# EAGLE library part RJ45-SMD (library alexlib_plues)
AMP connector
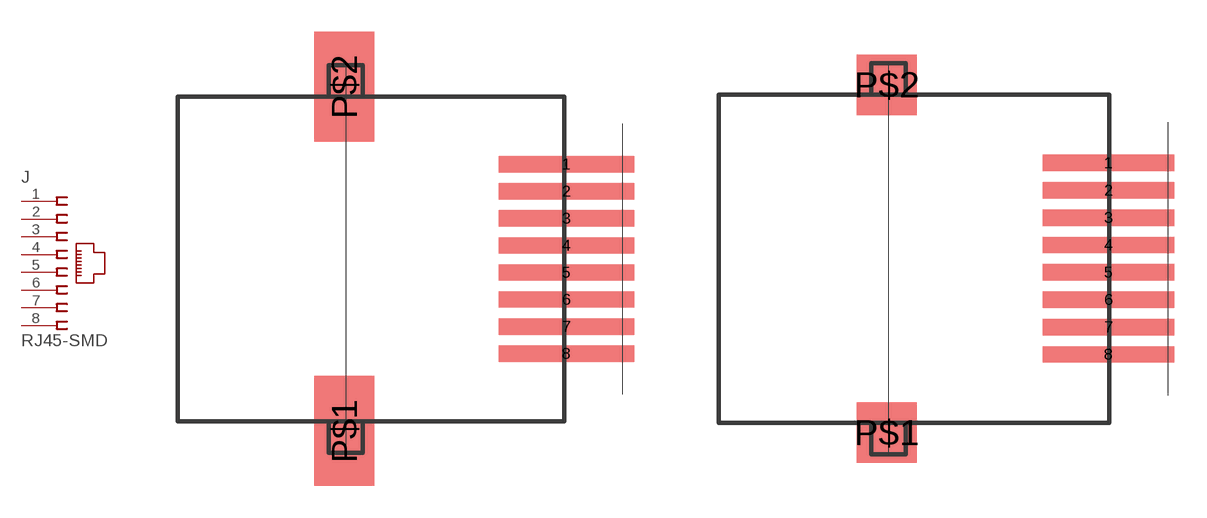
[diagram p2: symbol with the pads of 85502-5008; footprints 85502-5008, 85502-5008-SMALL]

Designator prefix J

## RJ45-SMDRJ45 (MOLEX: 85502-5008; OC_FARNELL: 1331561)  [85502-5008]
1  1  pas
2  2  pas
3  3  pas
4  4  pas
5  5  pas
6  6  pas
7  7  pas
8  8  pas

## RJ45-SMDRJ45-SMALL  [85502-5008-SMALL]
Pads as for 85502-5008

## Footprint 85502-5008 (pad centres in mm)
Modular Jack Keyed with Panel Stops
smd 6.35 x 0.762: 1 10.338,4.445; 2 10.338,3.175; 3 10.338,1.905; 4 10.338,0.635; 5 10.338,-0.635; 6 10.338,-1.905; 7 10.338,-3.175; 8 10.338,-4.445
smd 2.794 x 5.156: P$1 -0.076,-8.077; P$2 -0.076,8.077

## Footprint 85502-5008-SMALL (pad centres in mm)
Modular Jack Keyed with Panel Stops
smd 6.096 x 0.762: 1 10.211,4.445; 2 10.211,3.175; 3 10.211,1.905; 4 10.211,0.635; 5 10.211,-0.635; 6 10.211,-1.905; 7 10.211,-3.175; 8 10.211,-4.445
smd 2.794 x 2.794: P$1 -0.076,-8.077; P$2 -0.076,8.077